# EAGLE library part 691414720220 (library Wurth_Elektronik_Electromechanic_Terminal_Blocks_Connectors_rev16b)
WR-TBL Serie 4147 - 5.0mm Screwless 45° Entry - 3 mm2 Wires, 5 Pins
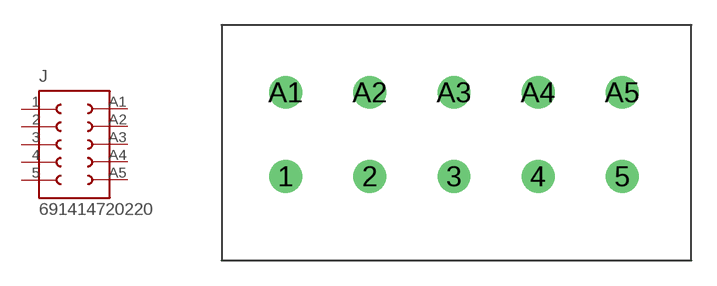
[diagram p231: symbol with the pads of 691414720005; footprint 691414720005]

Designator prefix J

## 691414720220  [691414720005]
1  1  pas
2  2  pas
3  3  pas
4  4  pas
5  5  pas
A1  10  pas
A2  9  pas
A3  8  pas
A4  7  pas
A5  6  pas

## Footprint 691414720005 (pad centres in mm)
WR-TBL Serie 4147 - 5.0mm Screwless 45° Entry - 3 mm2 Wires, 5 Pins
drill 1.3: 1 -10.08,-2.54; 2 -5.08,-2.54; 3 -0.08,-2.54; 4 4.92,-2.54; 5 9.92,-2.54; A1 -10.08,2.46; A2 -5.08,2.46; A3 -0.08,2.46; A4 4.92,2.46; A5 9.92,2.46